# EAGLE library part 6101621121 (library Wuerth_Elektronik_eiCan_Pin_&_Socked_Headers_v1.3)
WR-PHD 2.54mm Dual SMT Pin Header, 16 Pins
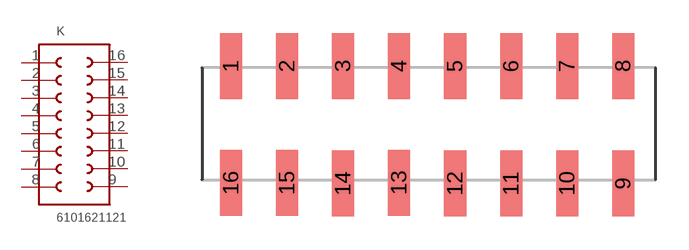
[diagram p95: symbol with the pads of 61001621121; footprint 61001621121]

Designator prefix K

## 6101621121  [61001621121]
1  1  pas
2  2  pas
3  3  pas
4  4  pas
5  5  pas
6  6  pas
7  7  pas
8  8  pas
9  9  pas
10  10  pas
11  11  pas
12  12  pas
13  13  pas
14  14  pas
15  15  pas
16  16  pas

## Footprint 61001621121 (pad centres in mm)
WR-PHD 2.54mm Dual SMT Pin Header, 16 Pins
smd 1 x 3: 1 -7.62,2.54; 2 -5.08,2.54; 3 -2.54,2.54; 4 0,2.54; 5 2.54,2.54; 6 5.08,2.54; 7 7.62,2.54; 8 10.16,2.54; 9 10.16,-2.79; 10 7.62,-2.79; 11 5.08,-2.79; 12 2.54,-2.79; 13 0,-2.76; 14 -2.54,-2.79; 15 -5.08,-2.76; 16 -7.62,-2.76